# Altium schematic symbol library 继电器类元件.SCHLIB: 17 symbols
Pins are listed as number, name and electrical type; pins without a type are passive.

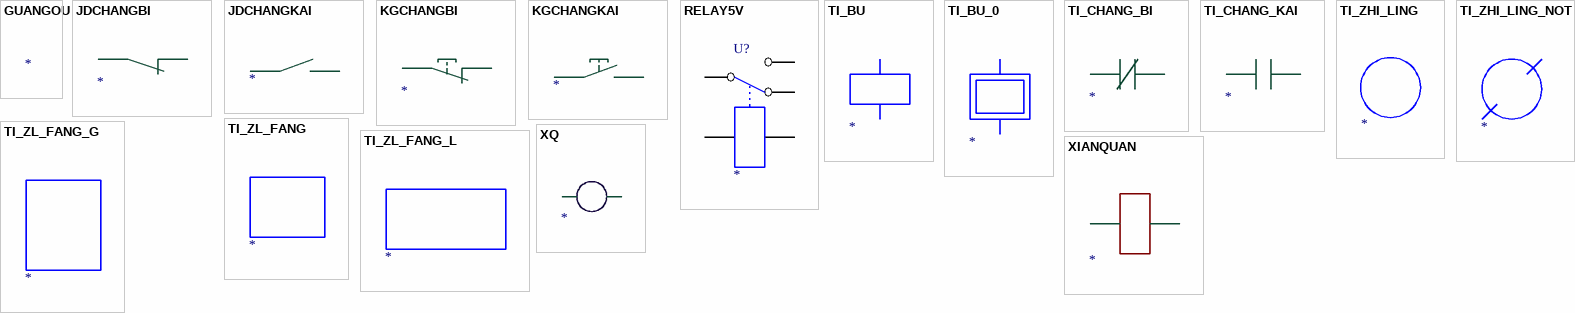
[diagram p0: symbols GUANGOU to XQ]

## GUANGOU
designator ?

## JDCHANGBI
designator ?

## JDCHANGKAI
designator ?

## KGCHANGBI
designator ?

## KGCHANGKAI
designator ?

## RELAY5V
designator U?
footprint Relay5V
pins: 1, 2, 3, 4, 5

## TI_BU
designator ?

## TI_BU_0
designator ?

## TI_CHANG_BI
designator ?

## TI_CHANG_KAI
designator ?

## TI_ZHI_LING
designator ?

## TI_ZHI_LING_NOT
designator ?

## TI_ZL_FANG
designator ?

## TI_ZL_FANG_G
designator ?

## TI_ZL_FANG_L
designator ?

## XIANQUAN
designator ?

## XQ
designator ?